# Altium footprint library leaded.PcbLib: 10 footprints
Each footprint in its own frame and in the unit in brackets; x right, y up, seen from the top. Pads: shape width x height; smd on the part's side, far side on the other; paste and mask are expansions set on the pad; w line width, h text height; cw(c..) or ccw(c..) is an arc to the next point about the centre after c.
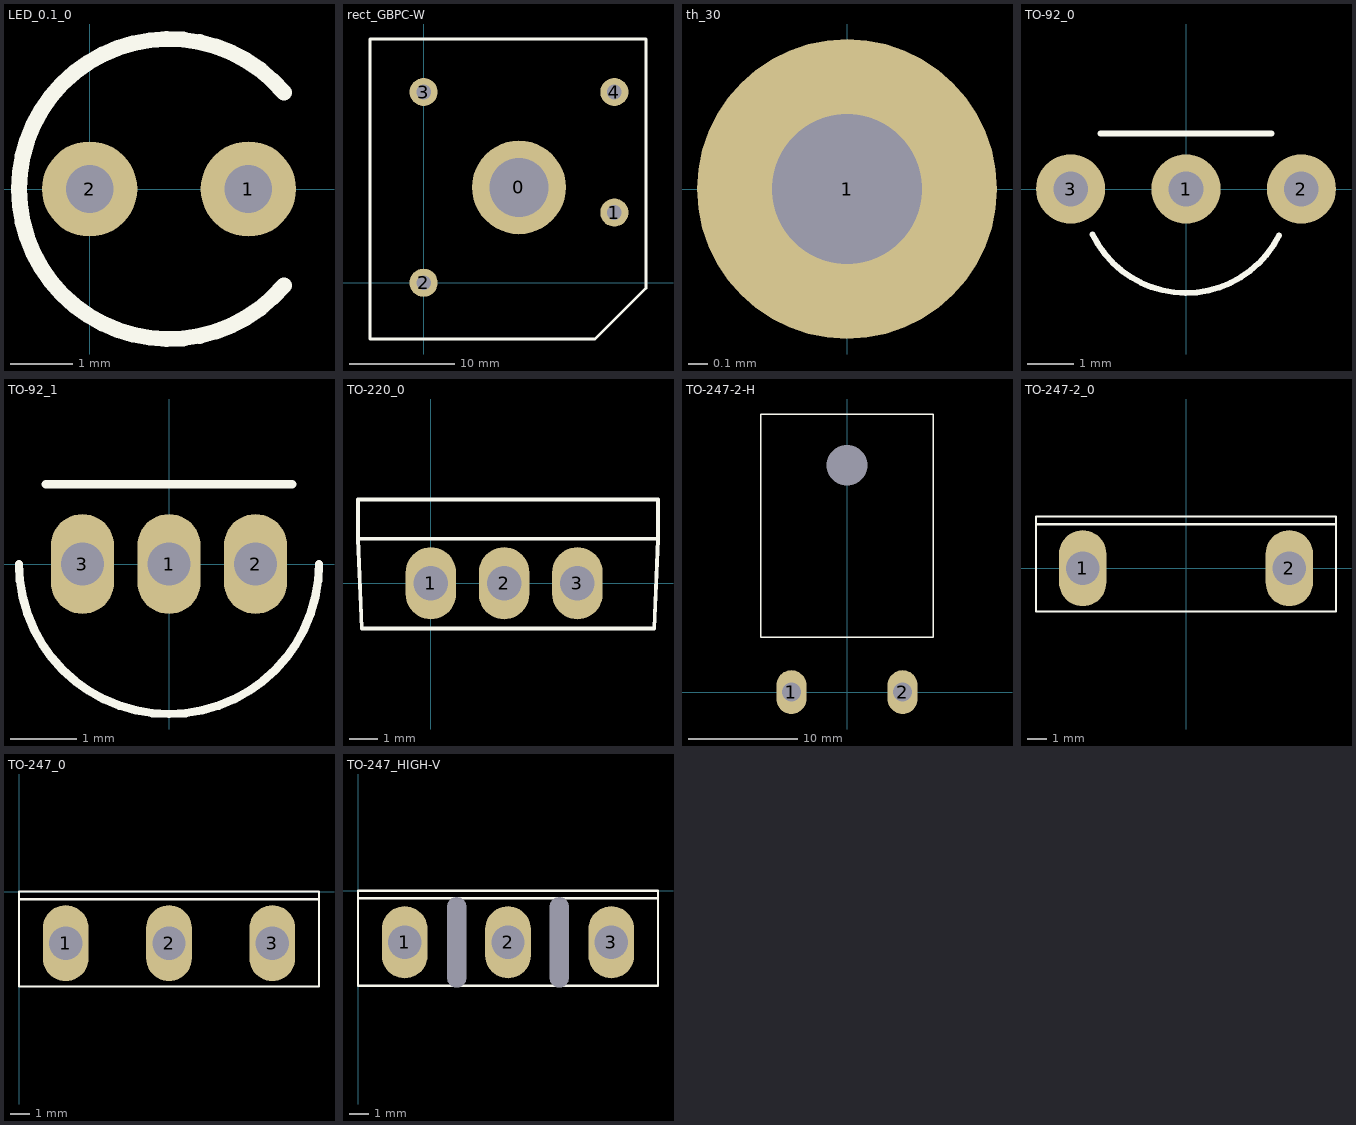
[diagram p0: the footprints below, top view; thin cyan lines are the x and y axes]

## LED_0.1_0 [mil] "LED, Dual Lead, 0.1\" Spacing"
pads (2):
  round 60 hole 30: 1(100,0) 2(0,0)
Top Overlay:
  lines w10: 122.38,-60.74 cw(c50,0) 122.38,60.74

## rect_GBPC-W [mil]
pads (5):
  round 350 hole 220: 0(356,356)
  round 105 hole 55: 1(712,262) 2(0,0) 3(0,712) 4(712,712)
Top Overlay:
  lines w10: -200,-210 -200,910 830,910 830,-20 640,-210 -200,-210
3D body: height 300, standoff 0, extent -200,-210 830,910

## th_30 [mil] "0.03\" Diameter Through Hole"
pads (1):
  round 60 hole 30: 1(0,0)

## TO-92_0 [mm] "TO-92 formed leads"
pads (3):
  round 1.5 hole 0.75: 1(0,0) 2(2.5,0) 3(-2.5,0)
Top Overlay:
  lines w0.127: -2.024,-0.987 ccw(c0,0) 2.014,-1.007 ; -1.85,1.2 1.85,1.2
3D body "TO-92 Formed Leads.stp": height 7.58, standoff -4, extent -2.77,-2.35 2.77,1.21

## TO-92_1 [mm] "TO-92 straight leads"
pads (3):
  oval 0.95x1.5 hole 0.65 mask+0.08: 1(0,0) 2(1.3,0) 3(-1.3,0)
Top Overlay:
  lines w0.127: -2.252,0 ccw(c0,0) 2.252,0 ; -1.85,1.2 1.85,1.2
3D body "TO-92.stp": height 6.18, standoff -3, extent -2.282,-2.35 2.29,1.21

## TO-220_0 [mm]
pads (3):
  oval 1.75x2.5 hole 1.194: 1(0,0) 2(2.54,0) 3(5.08,0)
Top Overlay:
  lines w0.127: 7.874,1.524 7.747,-1.568 -2.397,-1.568 -2.525,1.539 ; -2.525,1.539 -2.525,2.9 7.874,2.9 7.874,1.539 -2.525,1.539
3D body "TO-220AB-FairA.stp": height 19.5, standoff -9.2, extent -2.785,-1.7 7.865,3.1

## TO-247-2-H [mm] "TO-247 board mounted"
pads (3):
  round 0 hole 3.7: 0(0,20.7)
  oval 2.75x4 hole 1.75: 1(-5.08,0) 2(5.08,0)
Top Overlay:
  lines w0.127: -7.9,5 -7.9,25.4 7.9,25.4 7.9,5 -7.9,5
3D body "TO-247-2-H.SLDPRT": height 5, standoff -7.4, extent -7.75,-0.35 7.75,25.25

## TO-247-2_0 [mm]
pads (2):
  oval 2.5x4 hole 1.75: 1(-5.44,0) 2(5.44,0)
Top Overlay:
  lines w0.127: -7.9,2.32 7.9,2.32 ; -7.9,-2.28 7.9,-2.28 7.9,2.72 -7.9,2.72 -7.9,-2.28

## TO-247_0 [mm] "TO-247 vertical"
pads (3):
  oval 2.4x4 hole 1.75: 1(2.46,-2.72) 2(7.9,-2.72) 3(13.34,-2.72)
Top Overlay:
  lines w0.127: 0,-0.4 15.8,-0.4 ; 0,-5 0,0 15.8,0 15.8,-5 0,-5
3D body "TO-247_factory.stp": height 24.8, standoff -17.9, extent 0,-5 15.6,0

## TO-247_HIGH-V [mm] "TO-247 vertical"
pads (5):
  round 0 hole 4.75 slot 1 at 0 deg unplated: 0(5.2,-2.72) 0(10.6,-2.72)
  oval 2.4x3.8 hole 1.75: 1(2.46,-2.72) 2(7.9,-2.72) 3(13.34,-2.72)
Top Overlay:
  lines w0.127: 0,-0.4 15.8,-0.4 ; 0,-5 15.8,-5 15.8,0 0,0 0,-5
3D body "TO-247_factory.stp": height 24.8, standoff -17.9, extent 0,-5 15.6,0